# Altium footprint library WiredModule.PcbLib: 3 footprints
Each footprint in its own frame and in the unit in brackets; x right, y up, seen from the top. Pads: shape width x height; smd on the part's side, far side on the other; paste and mask are expansions set on the pad; w line width, h text height; cw(c..) or ccw(c..) is an arc to the next point about the centre after c.
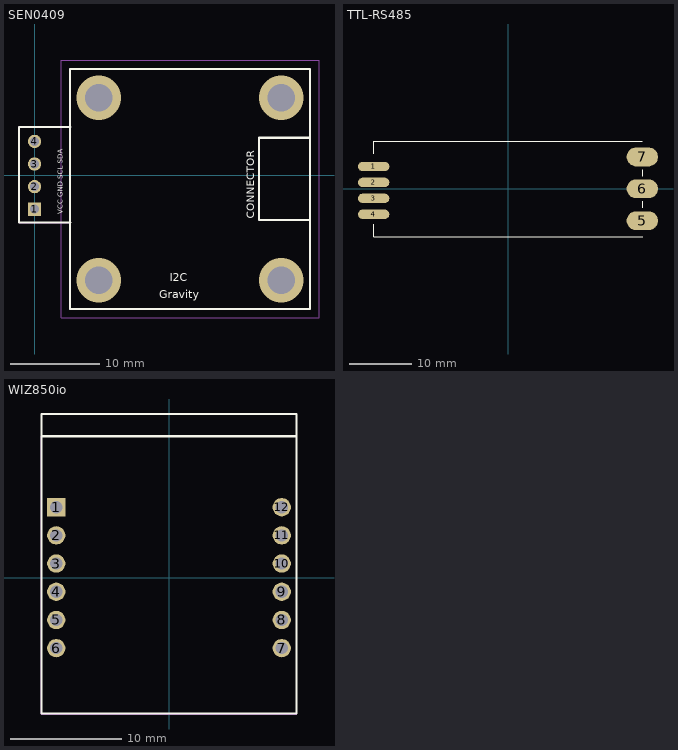
[diagram p0: the footprints below, top view; thin cyan lines are the x and y axes]

## SEN0409 [mm]
pads (4):
  rect 1.5x1.5 hole 1 square: 1(0,-3.81)
  round 1.5 hole 1: 2(0,-1.27) 3(0,1.27) 4(0,3.81)
via 7.23,8.711 diameter 5 hole 3.1
via 27.73,8.711 diameter 5 hole 3.1
via 27.73,-11.789 diameter 5 hole 3.1
via 7.23,-11.789 diameter 5 hole 3.1
Top Overlay:
  lines w0.25: 4,-5.31 -1.75,-5.31 -1.75,5.44 4,5.44 ; 30.98,-5.039 25.23,-5.039 25.23,4.211 30.98,4.211 ; 3.98,-15.039 3.98,11.961 30.98,11.961 30.98,-15.039 3.98,-15.039
  text "VCC GND SCL SDA" at 3.418,-4.375 h1
  text "CONNECTOR" at 25.037,-4.868 h1.5
  text "Gravity" at 14,-14.179 h1.52
  text "I2C" at 15.2,-12.252 h1.52
Mechanical 13:
  lines w0.1: 4,-5.31 -1.75,-5.31 -1.75,5.44 3.75,5.44 4,5.44 ; 3.98,-15.039 3.98,11.961 30.98,11.961 30.98,-15.039 3.98,-15.039
Mechanical 15:
  lines w0.1: 2.98,-16.039 2.98,-15.039 2.98,12.961 31.98,12.961 31.98,-16.039 2.98,-16.039
3D body "61300411121_Download_STP_61300411121_rev1.stp": height 10.27, standoff -1.27, extent -1.29,-5.069 1.25,5.091
3D body: height 2, standoff 0.5, extent 4.178,-14.685 30.822,11.685

## TTL-RS485 [mm]
pads (7):
  oval 5x1.5 smd mask+0.04: 1(-21.4,3.56) 2(-21.4,1.02) 3(-21.4,-1.52) 4(-21.4,-4.06)
  oval 5x3 smd mask+0.04: 5(21.4,-5.08) 6(21.4,0) 7(21.4,5.08)
Top Overlay:
  lines w0.152: -21.4,-5.64 -21.4,-7.64 21.508,-7.64 ; -21.4,5.58 -21.4,7.58 21.4,7.58 ; 21.5,-3 21.5,-2 ; 21.5,2 21.5,3
3D body "RS485 v5.step": height 3, standoff 0, extent -21.522,-7.556 21.278,7.544

## WIZ850io [mm]
pads (12):
  rect 1.65x1.65 hole 1.1: 1(-10.16,6.35)
  round 1.65 hole 1.1: 2(-10.16,3.81) 3(-10.16,1.27) 4(-10.16,-1.27) 5(-10.16,-3.81) 6(-10.16,-6.35) 7(10.16,-6.35) 8(10.16,-3.81) 9(10.16,-1.27) 10(10.16,1.27) 11(10.16,3.81) 12(10.16,6.35)
Top Overlay:
  lines w0.2: -11.5,12.75 -11.5,14.75 11.5,14.75 11.5,12.75 ; -11.5,12.75 -11.5,-12.25 11.5,-12.25 11.5,12.75 ; -11.5,12.75 11.5,12.75
Mechanical 15:
  lines w0.1: -11.5,-12.286 -11.5,12.75 11.5,12.75 11.5,-12.286 -11.5,-12.286
3D body "WIZ850IO.STEP": height 19.47, standoff -6, extent -11.5,-12.25 11.5,16.338